# EAGLE library part MCP125*? (library mchp-power)
Low Noise, Positive-Regulated Charge Pump Description The MCP1252/3 are inductorless, positive-regulated charge pump DC/DC converters. The devices generate a regulated fixed (3.3V or 5.0V) or adjustable output voltage. They are specifically designed for applications requiring low noise and high efficiency and are able to deliver up to 120 mA output current. The devices allow the input voltage to be lower or higher than the output voltage, by automatically switching between buck/ boost operation. The MCP1252 has a switching frequency of 650 kHz, avoiding interference with sensitive IF bands. The MCP1253 has a switching frequency of 1 MHz and allows the use of smaller capacitors than the MCP1252, thus saving board space and cost. FEATURES • Inductorless, Buck/Boost, DC/DC Converter • Low Power: 80 µA (Typical) • High Output Voltage Accuracy: - ±2.5% (VOUT Fixed) • 120 mA Output Current • Wide Operating Temperature Range: - -40°C to +85°C • Thermal Shutdown and Short-Circuit Protection • Uses Small Ceramic Capacitors • Switching Frequency: - MCP1252: 650 kHz - MCP1253: 1 MHz • Low Power Shutdown Mode: 0.1 µA (Typical) • Shutdown Input Compatible with 1.8V Logic • VIN Range: 2.0V to 5.5V • Selectable Output Voltage (3.3V or 5.0V) or Adjustable Output Voltage • Space-saving, 8-Lead MSOP • Soft-Start Circuitry to Minimize In-Rush Current How to order Device Operating Frec. Mode Package MCP125 2 = 650 KHz 3 = 1MHz -33x50 = Fixed -ADJ = Adjustable I/MS = micro small outline package Ref: Datasheet <http://www.mouser.com/ds/2/268/21752a-64146.pdf>
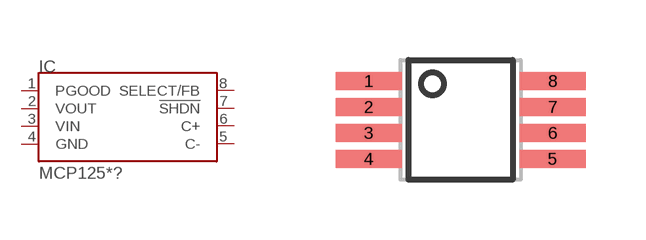
[diagram p0: symbol with the pads of SOP65P490X109-8M; footprint SOP65P490X109-8M]

Designator prefix IC

## MCP1253-33X50I/MS (EAGLEUP: SOP65P490X109-8M; MANUFACTURER: MICROCHIP), MCP125@I/MS (EAGLEUP: SOP65P490X109-8M)  [SOP65P490X109-8M]
1  PGOOD
2  VOUT
3  VIN
4  GND
5  C-
6  C+
7  !SHDN
8  SELECT/FB

## Footprint SOP65P490X109-8M (pad centres in mm)
Small Outline Package (SOP8) 0.65mm Pitch 8 Pin count 3.0mm L x 3.0mm W x 1.1mm H ----------------------------------------------------
smd 1.65 x 0.45: 1 -2.3,0.975; 2 -2.3,0.325; 3 -2.3,-0.325; 4 -2.3,-0.975; 5 2.3,-0.975; 6 2.3,-0.325; 7 2.3,0.325; 8 2.3,0.975